# EAGLE library part LTC6990 (library sjunglib)
LTC6990 silicon oscillator Manufacturer: Linear Vcc: 2.25-5.5V Frequency: 488Hz - 2MHz
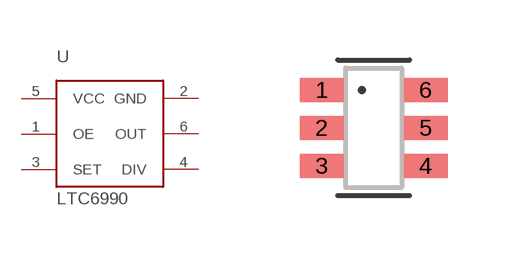
[diagram p0: symbol with the pads of SOT23-6; footprint SOT23-6]

Designator prefix U

## LTC6990CS6  [SOT23-6]
1  OE  in
2  GND  pwr
3  SET  in
4  DIV  in
5  VCC  pwr
6  OUT  out

## Footprint SOT23-6 (pad centres in mm)
SOT23-6 Pads: 0.6 x 1.1 mm Pitch: 0.95mm Center-center spacing: 2.6mm Documented dims: 3.0 x 1.4 mm Documented leads: 0.5 x 0.6 mm JEDEC: MO-178AB EIA: SC-74
smd 1.1 x 0.6: 1 -1.3,0.95; 2 -1.3,0; 3 -1.3,-0.95; 4 1.3,-0.95; 5 1.3,0; 6 1.3,0.95